# EAGLE library part 104250-0820 (library 1042500820 - Board to Board Connector, 8p - Header)
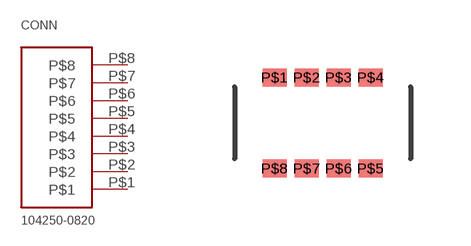
[diagram p0: symbol with the pads of SMD; footprint SMD]

Designator prefix CONN

## 104250-0820  [SMD]
P$1  P$1
P$2  P$2
P$3  P$3
P$4  P$4
P$5  P$5
P$6  P$6
P$7  P$7
P$8  P$8

## Footprint SMD (pad centres in mm)
smd 0.6 x 0.45: P$1 -1.2,1.14; P$2 -0.4,1.14; P$3 0.4,1.14; P$4 1.2,1.14; P$5 1.2,-1.14; P$6 0.4,-1.14; P$7 -0.4,-1.14; P$8 -1.2,-1.14